# EAGLE library part DP_EDP_ADAPTER_EDP_CONNECTOR (library DP_eDP_Adapter)
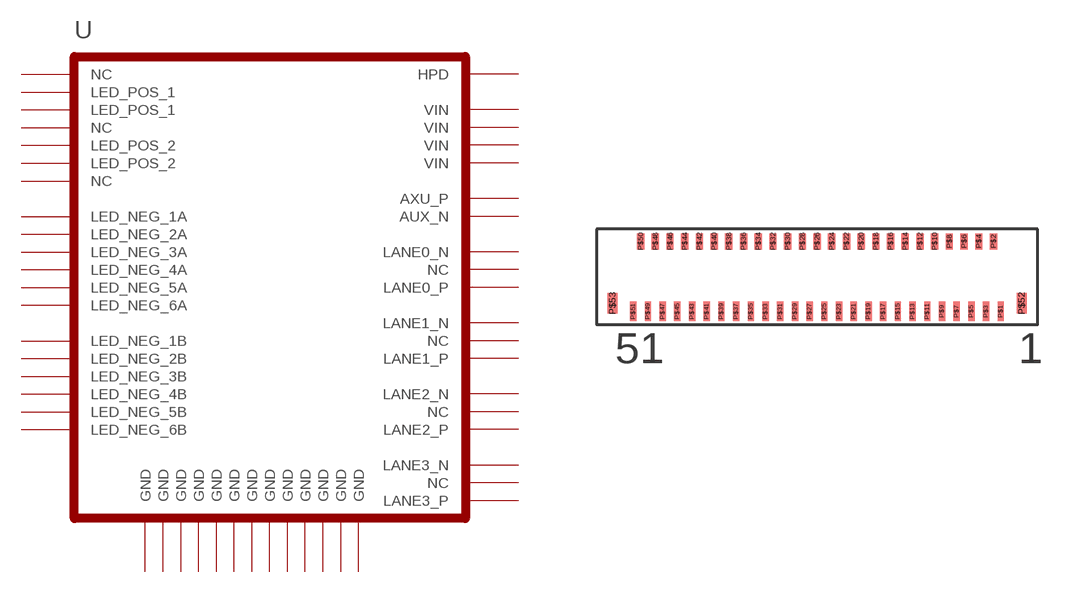
[diagram p1: symbol with the pads of DP_EDP_ADAPTER_EDP_MOLEX; footprint DP_EDP_ADAPTER_EDP_MOLEX]

Designator prefix -

## DP_EDP_ADAPTER_EDP_CONNECTOR  [DP_EDP_ADAPTER_EDP_MOLEX]
P$1  GND
P$2  HPD
P$3  GND
P$4  VIN
P$5  VIN
P$6  VIN
P$7  VIN
P$8  GND
P$9  AXU_P
P$10  AUX_N
P$11  GND
P$12  LANE0_N
P$13  NC
P$14  LANE0_P
P$15  GND
P$16  LANE1_N
P$17  NC
P$18  LANE1_P
P$19  GND
P$20  LANE2_N
P$21  NC
P$22  LANE2_P
P$23  GND
P$24  LANE3_N
P$25  NC
P$26  LANE3_P
P$27  GND
P$28  GND
P$29  GND
P$30  LED_NEG_6B
P$31  LED_NEG_5B
P$32  LED_NEG_4B
P$33  LED_NEG_3B
P$34  LED_NEG_2B
P$35  LED_NEG_1B
P$36  GND
P$37  LED_NEG_6A
P$38  LED_NEG_5A
P$39  LED_NEG_4A
P$40  LED_NEG_3A
P$41  LED_NEG_2A
P$42  LED_NEG_1A
P$43  GND
P$44  NC
P$45  LED_POS_2
P$46  LED_POS_2
P$47  NC
P$48  LED_POS_1
P$49  LED_POS_1
P$50  NC
P$51  GND

## Footprint DP_EDP_ADAPTER_EDP_MOLEX (pad centres in mm)
smd 0.26 x 0.8: P$1 7.5,-1.08; P$3 6.9,-1.08; P$5 6.3,-1.08; P$7 5.7,-1.08; P$9 5.1,-1.08; P$11 4.5,-1.08; P$13 3.9,-1.08; P$15 3.3,-1.08; P$17 2.7,-1.08; P$19 2.1,-1.08; P$21 1.5,-1.08; P$23 0.9,-1.08; P$25 0.3,-1.08; P$27 -0.3,-1.08; P$29 -0.9,-1.08; P$31 -1.5,-1.08; P$33 -2.1,-1.08; P$35 -2.7,-1.08; P$37 -3.3,-1.08; P$39 -3.9,-1.08; P$41 -4.5,-1.08; P$43 -5.1,-1.08; P$45 -5.7,-1.08; P$47 -6.3,-1.08; P$49 -6.9,-1.08; P$51 -7.5,-1.08
smd 0.3 x 0.65: P$2 7.2,1.77; P$4 6.6,1.77; P$6 6,1.77; P$8 5.4,1.77; P$10 4.8,1.77; P$12 4.2,1.77; P$14 3.6,1.77; P$16 3,1.77; P$18 2.4,1.77; P$20 1.8,1.77; P$22 1.2,1.77; P$24 0.6,1.77; P$26 0,1.77; P$28 -0.6,1.77; P$30 -1.2,1.77; P$32 -1.8,1.77; P$34 -2.4,1.77; P$36 -3,1.77; P$38 -3.6,1.77; P$40 -4.2,1.77; P$42 -4.8,1.77; P$44 -5.4,1.77; P$46 -6,1.77; P$48 -6.6,1.77; P$50 -7.2,1.77
smd 0.4 x 0.85: P$52 8.35,-0.75; P$53 -8.35,-0.75